# Altium footprint library Module.PcbLib: 1 footprints
Each footprint in its own frame and in the unit in brackets; x right, y up, seen from the top. Pads: shape width x height; smd on the part's side, far side on the other; paste and mask are expansions set on the pad; w line width, h text height; cw(c..) or ccw(c..) is an arc to the next point about the centre after c.
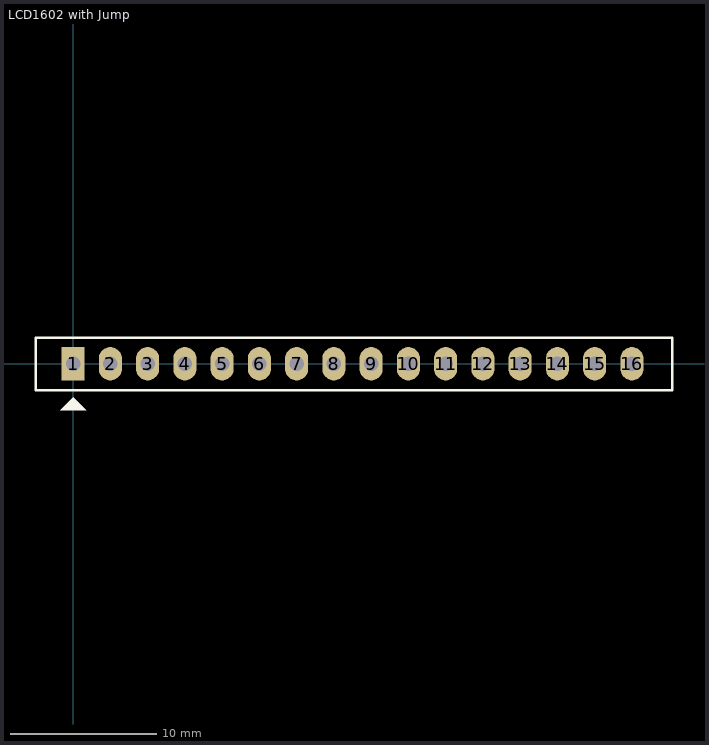
[diagram p0: the footprint, top view; thin cyan lines are the x and y axes]

## LCD1602 with Jump [mil] "LCD dipslay 16x2, 16 pin"
height 400
pads (16):
  rect 62x90 hole 39: 1(0,0)
  oval 62x90 hole 39: 2(100,0) 3(200,0) 4(300,0) 5(400,0) 6(500,0) 7(600,0) 8(700,0) 9(800,0) 10(900,0) 11(1000,0) 12(1100,0) 13(1200,0) 14(1300,0) 15(1400,0) 16(1500,0)
Top Overlay:
  region: 0,-90 -35,-125 35,-125
  lines w7: -100,-71 1608,-71 1608,70 -100,70 -100,-71
3D body "lcd16.STEP": height 764, standoff 244, extent -319.64,-1353.49 2849.65,83.51
3D body "jp16.stp": height 468.11, standoff -20.08, extent -48.03,-48.43 1548.03,50
3D body "socket16.stp": height 276.19, standoff -117.51, extent -49,-49 1551,51